# Altium footprint library My_lib.PcbLib: 1 footprints
Each footprint in its own frame and in the unit in brackets; x right, y up, seen from the top. Pads: shape width x height; smd on the part's side, far side on the other; paste and mask are expansions set on the pad; w line width, h text height; cw(c..) or ccw(c..) is an arc to the next point about the centre after c.
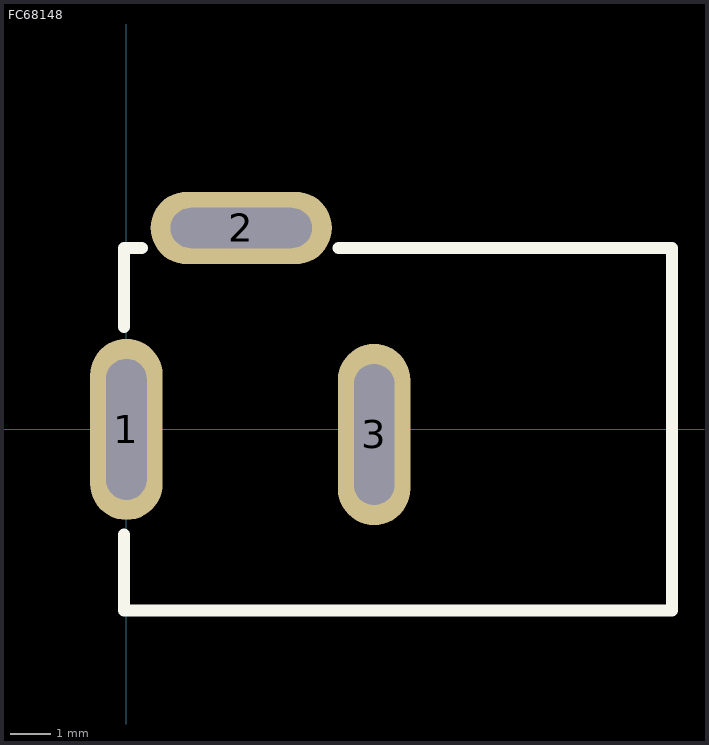
[diagram p0: the footprint, top view; thin cyan lines are the x and y axes]

## FC68148 [mm]
pads (3):
  oval 1.8x4.5 hole 1 slot 3.5 at 90 deg: 1(0,0) 3(6.15,-0.127)
  oval 4.5x1.8 hole 1 slot 3.5 at 0 deg: 2(2.85,5)
Top Overlay:
  lines w0.3: -0.065,-2.605 -0.065,-4.5 13.55,-4.5 13.55,4.5 5.262,4.5 ; -0.065,2.54 -0.065,4.5 0.381,4.5
3D body "SW3dPS-dc range - dc connector[4840.2201].STEP": height 11, standoff -3.5, extent -0.182,-4.425 13.644,5.08